# Altium schematic symbol library CN_LCD.Schlib: 1 symbol
Pins are listed as number, name and electrical type; pins without a type are passive.

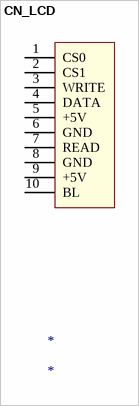
[diagram p0: symbol CN_LCD]

## CN_LCD
designator *
pins: 1 CS0, 2 CS1, 3 WRITE, 4 DATA, 5 +5V, 6 GND, 7 READ, 8 GND, 9 +5V, 10 BL